# Altium schematic symbol library GAN7R0-150LBE.Schlib: 1 symbol
Pins are listed as number, name and electrical type; pins without a type are passive.

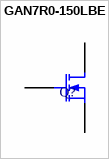
[diagram p0: symbol GAN7R0-150LBE]

## GAN7R0-150LBE
designator Q?
N-Channel MOSFET
pins: 1 G, 2 S, 3 D